# Altium footprint library U.FL-R-SMT.PcbLib: 2 footprints
Each footprint in its own frame and in the unit in brackets; x right, y up, seen from the top. Pads: shape width x height; smd on the part's side, far side on the other; paste and mask are expansions set on the pad; w line width, h text height; cw(c..) or ccw(c..) is an arc to the next point about the centre after c.
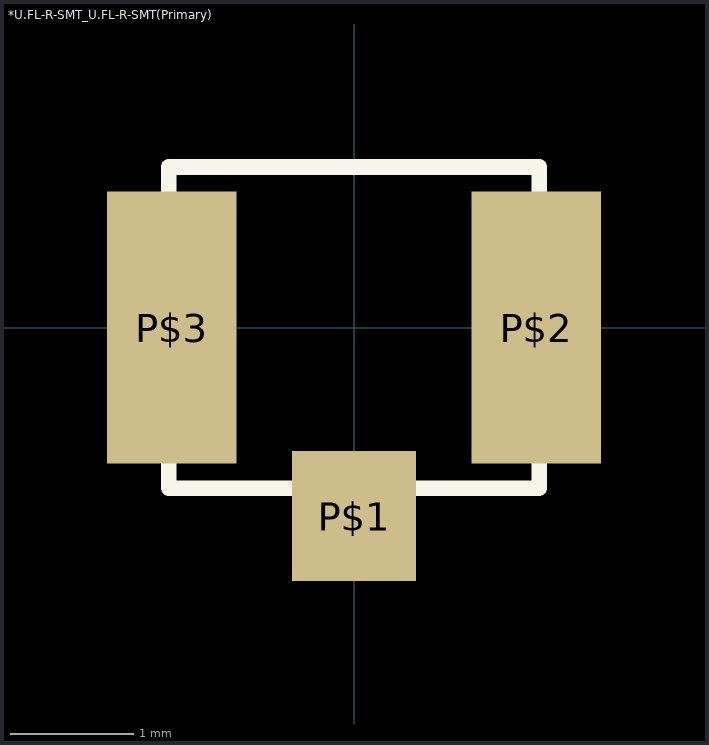
[diagram p0: the footprints below, top view; thin cyan lines are the x and y axes]

## *U.FL-R-SMT_U.FL-R-SMT(Primary) [mm]
pads (3):
  rect 1x1.05 smd: P$1(0,-1.525)
  rect 1.05x2.2 smd: P$2(1.475,0) P$3(-1.475,0)
Top Overlay:
  lines w0.127: -1.5,-1.3 -1.5,1.3 1.5,1.3 1.5,-1.3 -1.5,-1.3

## PCBComponent_1 [mm]